# EAGLE library part IC_SN74AUC1G74_SOP8_DCT_SN74AUC (library BeagleBone_Black_egl)
IC_SN74AUC1G74_SOP8_DCT_SN74AUC
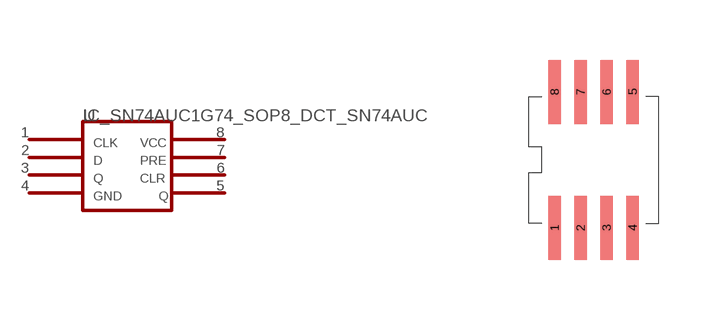
[diagram p8: symbol with the pads of SOP8_DCT; footprint SOP8_DCT]

Designator prefix -

## IC_SN74AUC1G74_SOP8_DCT_SN74AUC  [SOP8_DCT]
1  1
2  2
3  3
4  4
5  5
6  6
7  7
8  8

## Footprint SOP8_DCT (pad centres in mm)
smd 0.305 x 1.6: 1 -0.975,-1.702; 2 -0.325,-1.702; 3 0.325,-1.702; 4 0.975,-1.702; 5 0.975,1.702; 6 0.325,1.702; 7 -0.325,1.702; 8 -0.975,1.702